# EAGLE library part AD7705 (library tmxk)
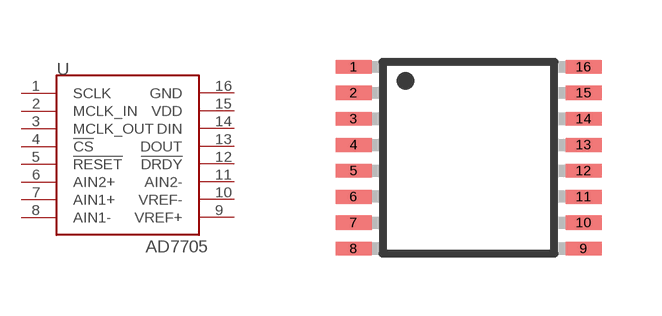
[diagram p10: symbol with the pads of TSSOP16; footprint TSSOP16]

Designator prefix U

## AD7705  [TSSOP16]
1  SCLK
2  MCLK_IN
3  MCLK_OUT
4  !CS!
5  !RESET!
6  AIN2+
7  AIN1+
8  AIN1-
9  VREF+
10  VREF-
11  AIN2-
12  !DRDY!
13  DOUT
14  DIN
15  VDD
16  GND

## Footprint TSSOP16 (pad centres in mm)
16-Lead Thin Shrink Small Outline Package [TSSOP] (RU-16) Source: 8x ADG1408_1409.pdf
smd 0.9 x 0.35: 1 -2.875,2.275; 2 -2.875,1.625; 3 -2.875,0.975; 4 -2.875,0.325; 5 -2.875,-0.325; 6 -2.875,-0.975; 7 -2.875,-1.625; 8 -2.875,-2.275; 9 2.875,-2.275; 10 2.875,-1.625; 11 2.875,-0.975; 12 2.875,-0.325; 13 2.875,0.325; 14 2.875,0.975; 15 2.875,1.625; 16 2.875,2.275